# Altium footprint library PCB11.PcbLib: 14 footprints
Each footprint in its own frame and in the unit in brackets; x right, y up, seen from the top. Pads: shape width x height; smd on the part's side, far side on the other; paste and mask are expansions set on the pad; w line width, h text height; cw(c..) or ccw(c..) is an arc to the next point about the centre after c.
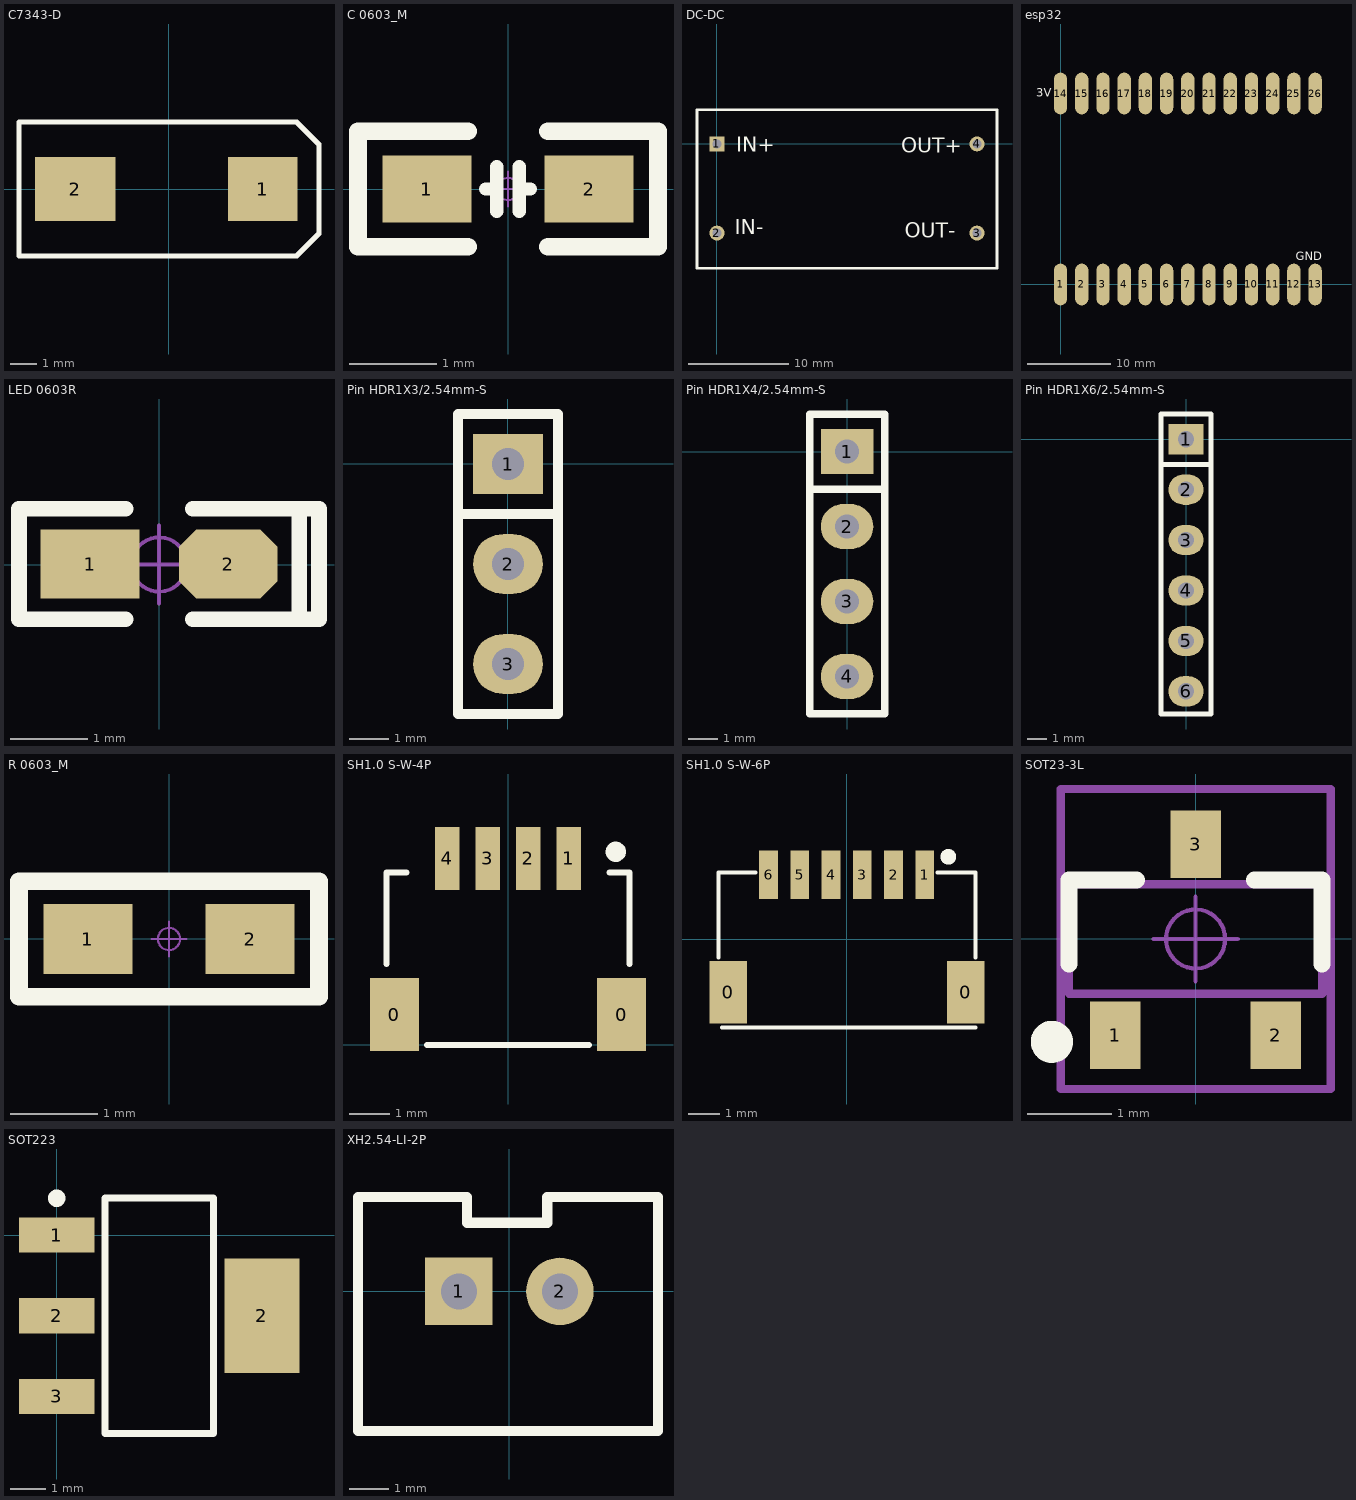
[diagram p0: the footprints below, top view; thin cyan lines are the x and y axes]

## C7343-D [mm]
pads (2):
  rect 2.6x2.4 smd: 1(3.5,0)
  rect 3x2.4 smd: 2(-3.5,0)
Top Overlay:
  lines w0.2: -5.6,-2.5 -5.6,0 -5.6,2.5 4.767,2.5 5.6,1.667 5.6,-1.667 4.767,-2.5 -5.6,-2.5
3D body "User Library-CAP_TANT_7343-31.STEP": height 3.1, standoff 0, extent -3.8,-2.3 3.8,2.3

## C 0603_M [mil] "无极性贴片电容"
height 532.68
pads (2):
  rect 40x30 smd: 1(-36.5,0) 2(36.5,0)
Top Overlay:
  lines w6: -10,0 -5,0 ; -5,-10 -5,10 ; 5,-10 5,10 ; 5,0 10,0
  lines w8: -18,-26 -67.5,-26 -67.5,26 -18,26 ; 18,-26 67.5,-26 67.5,26 18,26
Mechanical 15:
  circle w1: c0,0 r5
  lines w1: -7.87,0 7.87,0 ; 0,-7.87 0,7.87
3D body "C 0603.STEP": height 31.89, standoff -0.39, extent -31.5,-16.14 31.5,16.14

## DC-DC [mm]
pads (4):
  rect 1.5x1.5 hole 0.9: 1(0,0)
  round 1.5 hole 0.9: 2(0,-8.92) 3(26,-8.92) 4(26,0)
Top Overlay:
  lines w0.254: -2,-12.446 -2,3.429 28,3.429 28,-12.446 -2,-12.446
  text "OUT+" at 18.415,-0.889 h1.5
  text "OUT-" at 18.796,-9.398 h1.5
  text "IN-" at 1.778,-9.017 h1.5
  text "IN+" at 1.905,-0.762 h1.5

## esp32 [mm]
pads (26):
  oval 1.6x5 smd: 1(0,0) 2(2.54,0) 3(5.08,0) 4(7.62,0) 5(10.16,0) 6(12.7,0) 7(15.24,0) 8(17.78,0) 9(20.32,0) 10(22.86,0) 11(25.4,0) 12(27.94,0) 13(30.48,0) 14(0,22.86) 15(2.54,22.86) 16(5.08,22.86) 17(7.62,22.86) 18(10.16,22.86) 19(12.7,22.86) 20(15.24,22.86) 21(17.78,22.86) 22(20.32,22.86) 23(22.86,22.86) 24(25.4,22.86) 25(27.94,22.86) 26(30.48,22.86)
Top Overlay:
  text "GND" at 28.18,2.907 h1
  text "3V" at -2.935,22.465 h1
3D body "61000411921.x_t": height 7.55, standoff 0.05, extent 21.34,-2.025 32,2.025
3D body "61000411921.x_t": height 7.55, standoff 0.05, extent 18.8,-2.025 29.46,2.025
3D body "61000411921.x_t": height 7.55, standoff 0.05, extent 8.67,-2.025 19.33,2.025
3D body "61000411921.x_t": height 7.55, standoff 0.05, extent 8.67,20.835 19.33,24.885
3D body "61000411921.x_t": height 7.55, standoff 0.05, extent -1.53,20.835 9.13,24.885
3D body "61000411921.x_t": height 7.55, standoff 0.05, extent 18.8,20.835 29.46,24.885
3D body "61000411921.x_t": height 7.55, standoff 0.05, extent 21.34,20.835 32,24.885
3D body "61000411921.x_t": height 7.55, standoff 0.05, extent -1.551,-2.054 9.109,1.996

## LED 0603R [mil] "红色0603LED"
height 532.68
pads (2):
  rect 50x35 smd: 1(-35,0.26)
  oct 50x35 smd: 2(35,0.26)
Top Overlay:
  lines w8: -17,-27.74 -71,-27.74 -71,-25.74 -71,28.26 -70,28.26 -17,28.26 ; 17,-27.74 70,-27.74 ; 17,28.26 71,28.26 81,28.26 81,-27.74 71,-27.74 71,26.26
Mechanical 15:
  circle w1.97: c0,0 r13.78
  lines w1.97: -19.68,0 19.69,0 ; 0,-19.68 0,19.69
3D body "LED 0603玻璃罩.": height 23.82, standoff 8.07, extent -23.58,-15.79 23.58,15.79
3D body "LED 0603-R.STEP": height 18.34, standoff -0.16, extent -31.49,-15.78 31.5,15.79

## Pin HDR1X3/2.54mm-S [mil]
pads (3):
  rect 70x60 hole 32: 1(0,0)
  oval 70x60 hole 32: 2(0,-100) 3(0,-200)
Top Overlay:
  lines w10: -50,-50 50,-50 ; -50,-250 -50,50 50,50 50,-250 -50,-250
3D body "1001-3.STEP": height 336.22, standoff -118.11, extent -49.99,-250 50.01,50

## Pin HDR1X4/2.54mm-S [mil]
pads (4):
  rect 70x60 hole 32: 1(0,0)
  oval 70x60 hole 32: 2(0,-100) 3(0,-200) 4(0,-300)
Top Overlay:
  lines w10: -50,-50 50,-50 ; -50,-350 -50,50 50,50 50,-350 -50,-350
3D body "1001-4.STEP": height 336.22, standoff -118.11, extent -49.99,-350 50.01,50

## Pin HDR1X6/2.54mm-S [mil]
pads (6):
  rect 70x60 hole 32: 1(0,0)
  oval 70x60 hole 32: 2(0,-100) 3(0,-200) 4(0,-300) 5(0,-400) 6(0,-500)
Top Overlay:
  lines w10: -50,-50 50,-50 ; -50,-545 50,-545 50,50 -50,50 -50,-545
3D body "1001-6.STEP": height 336.22, standoff -118.11, extent -50,-545 50,55

## R 0603_M [mil] "1/10W贴片电阻"
height 532.68
pads (2):
  rect 40x31.5 smd: 1(-36.5,0) 2(36.5,0)
Top Overlay:
  lines w8: -67.5,-26 -67.5,26 67.5,26 67.5,-26 -67.5,-26
Mechanical 15:
  circle w1: c0,0 r5
  lines w1: -7.87,0 7.87,0 ; 0,-7.87 0,7.87
3D body "R 0603.STEP": height 15.79, standoff -0.13, extent -31.5,-15.75 31.5,15.75

## SH1.0 S-W-4P [mm]
pads (6):
  rect 1.2x1.8 smd: 0(-2.8,0.75) 0(2.8,0.75)
  rect 0.6x1.55 smd: 1(1.5,4.6) 2(0.5,4.6) 3(-0.5,4.6) 4(-1.5,4.6)
Top Overlay:
  circle w0.25: c2.659,4.764 r0.125
  lines w0.15: -3,2 -3,4.25 -2.5,4.25 ; -2,0 2,0 ; 2.5,4.25 3,4.25 3,2
3D body "SM04B-SRSS-TB.STEP": height 2.92, standoff -0.04, extent -3,0 3,4.95

## SH1.0 S-W-6P [mm]
pads (8):
  rect 1.2x2 smd: 0(-3.8,-1.7) 0(3.8,-1.7)
  rect 0.6x1.55 smd: 1(2.489,2.057) 2(1.489,2.057) 3(0.489,2.057) 4(-0.511,2.057) 5(-1.511,2.057) 6(-2.511,2.057)
Top Overlay:
  circle w0.25: c3.243,2.63 r0.125
  lines w0.127: -4.115,-0.584 -4.115,2.134 -2.921,2.134 ; -3.994,-2.831 4.109,-2.831 ; 2.89,2.122 4.115,2.122 4.115,-0.596
3D body "User Library-JST - SM06B-SRSS-TB (SH SERIES - 1_0mm PITCH WIRE-TO-BOARD, SMT, RA).STEP": height 2.9, standoff 0, extent -3.988,-2.475 4.012,2.475

## SOT23-3L [mm]
pads (3):
  rect 0.6x0.8 smd: 1(-0.95,-1.143) 2(0.95,-1.143) 3(0,1.125)
Top Overlay:
  circle w0.25: c-1.702,-1.219 r0.125
  lines w0.2: -1.5,-0.3 -1.5,0.7 -0.7,0.7 ; 0.7,0.7 1.5,0.7 1.5,-0.3
Mechanical 13:
  lines w0.1: -1.5,-0.65 -1.5,0.65 1.5,0.65 1.5,-0.65 -1.5,-0.65
Mechanical 15:
  circle w0.05: c0,0 r0.35
  lines w0.05: -0.5,0 0.5,0 ; 0,-0.5 0,0.5
  lines w0.1: -1.6,-1.778 -1.6,1.778 1.6,1.778 1.6,-1.778 -1.6,-1.778
3D body "SOT23-3.STEP": height 1.05, standoff 0, extent -1.5,-1.2 1.5,1.2

## SOT223 [mm]
pads (4):
  rect 2.15x1 smd: 1(0,0) 2(0,-2.3) 3(0,-4.6)
  rect 2.15x3.25 smd: 2(5.85,-2.3)
Top Overlay:
  circle w0.25: c0,1.05 r0.125
  lines w0.2: 1.375,-5.65 1.375,1.05 4.475,1.05 4.475,-5.65 1.375,-5.65
3D body "CircuitWorks-SOT-223.STEP": height 1.7, standoff 0.02, extent -0.559,-5.536 6.401,0.964

## XH2.54-LI-2P [mm] "接插件，2P"
pads (2):
  rect 1.7x1.7 hole 0.9: 1(-1.27,0)
  round 1.7 hole 0.9: 2(1.27,0)
Top Overlay:
  lines w0.254: -3.807,-3.505 -3.807,2.37 -1.067,2.37 -1.067,1.727 0.953,1.727 0.953,2.37 2.954,2.37 3.736,2.37 3.736,-3.505 -3.807,-3.505
3D body "XH2.54-2P.STEP": height 7.05, standoff -2.45, extent -3.77,-3.3 3.77,2.4